# EAGLE library part ADS131* (library _hhn_AMC1100_ISO7240_ADS130)
ADS131 8-Channel, Integrated Analog Front-End for Metering Applications Package: PQFP-64 (0.5mm pitch) 10x10mm (TI-postfix "PAG") ADS130_ : (Generic) ADS130E08: 8 Channels, Accuracy Class 1.0, 8 ksps ADS131_ : (Generic) ADS131E04: 4 Channels, Accuracy Class 0.1, 64 ksps ADS131E06: 6 Channels, Accuracy Class 0.1, 64 ksps ADS131E08: 8 Channels, Accuracy Class 0.1, 64 ksps Author: Dipl.-Ing. FH Rainer Bayer Hochschule Heilbronn: http://www.hochschule-heilbronn.de/rainer.bayer <http://www.hs-heilbronn.de/rainer.bayer> – rainer.bayer@hs-heilbronn.de Ingenieurbüro ing-rb: http://www.ing-rb.de/ – eagle@ing-rb.de Dozent dozent-rb: http://www.dozent-rb.de/ – eagle@dozent-rb.de
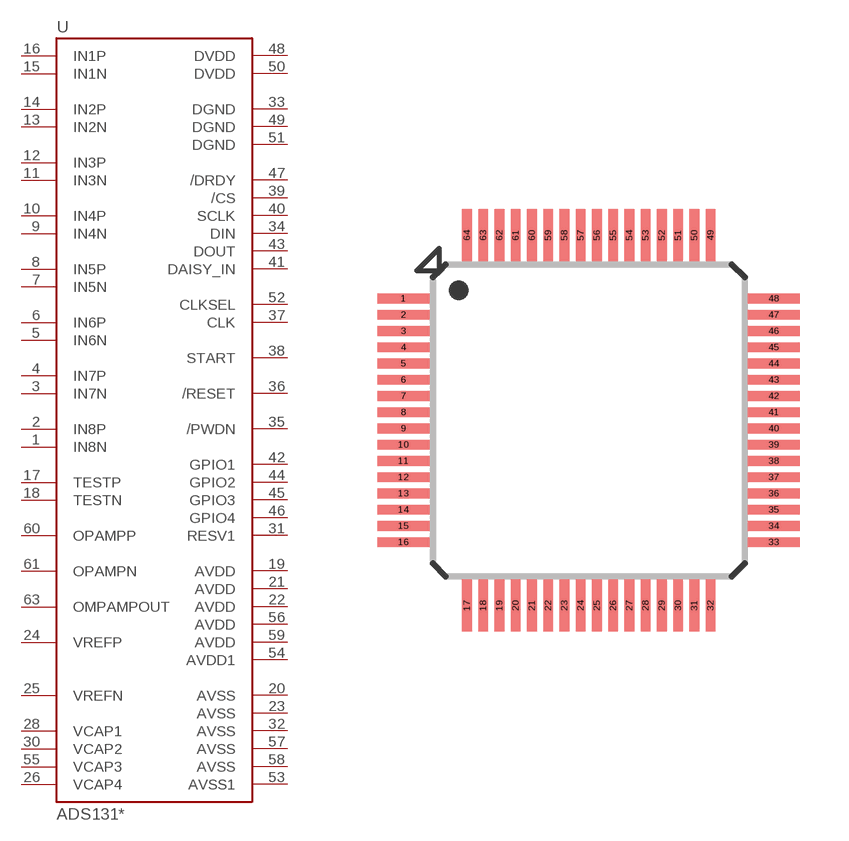
[diagram p6: symbol with the pads of TQFP64-10X10; footprint TQFP64-10X10]

Designator prefix U

## ADS131E04PAG, ADS131E06PAG, ADS131E08PAG, ADS131_PAG  [TQFP64-10X10]
1  IN8N  pas
2  IN8P  pas
3  IN7N  pas
4  IN7P  pas
5  IN6N  pas
6  IN6P  pas
7  IN5N  pas
8  IN5P  pas
9  IN4N  pas
10  IN4P  pas
11  IN3N  pas
12  IN3P  pas
13  IN2N  pas
14  IN2P  pas
15  IN1N  pas
16  IN1P  pas
17  TESTP  out
18  TESTN  out
19  AVDD  pwr
20  AVSS  pwr
21  AVDD  pwr
22  AVDD  pwr
23  AVSS  pwr
24  VREFP  pwr
25  VREFN  pwr
26  VCAP4  pas
28  VCAP1  pas
30  VCAP2  pas
31  RESV1  in
32  AVSS  pwr
33  DGND  pwr
34  DIN  in
35  /PWDN  in
36  /RESET  in
37  CLK
38  START  in
39  /CS  in
40  SCLK  in
41  DAISY_IN  in
42  GPIO1
43  DOUT  hiz
44  GPIO2
45  GPIO3
46  GPIO4
47  /DRDY  out
48  DVDD  pwr
49  DGND  pwr
50  DVDD  pwr
51  DGND  pwr
52  CLKSEL  in
53  AVSS1  pwr
54  AVDD1  pwr
55  VCAP3  pas
56  AVDD  pwr
57  AVSS  pwr
58  AVSS  pwr
59  AVDD  pwr
60  OPAMPP  pas
61  OPAMPN  pas
63  OMPAMPOUT  pas

## Footprint TQFP64-10X10 (pad centres in mm)
PQFP-64: Plastic Quad Flatpack, Metric (0.5mm), 10x10mm acc. to TI-specs/-recommendations; TI postfix PAG (S-PQFP-64)
smd 1.6 x 0.3: 1 -5.7,3.75; 2 -5.7,3.25; 3 -5.7,2.75; 4 -5.7,2.25; 5 -5.7,1.75; 6 -5.7,1.25; 7 -5.7,0.75; 8 -5.7,0.25; 9 -5.7,-0.25; 10 -5.7,-0.75; 11 -5.7,-1.25; 12 -5.7,-1.75; 13 -5.7,-2.25; 14 -5.7,-2.75; 15 -5.7,-3.25; 16 -5.7,-3.75; 33 5.7,-3.75; 34 5.7,-3.25; 35 5.7,-2.75; 36 5.7,-2.25; 37 5.7,-1.75; 38 5.7,-1.25; 39 5.7,-0.75; 40 5.7,-0.25; 41 5.7,0.25; 42 5.7,0.75; 43 5.7,1.25; 44 5.7,1.75; 45 5.7,2.25; 46 5.7,2.75; 47 5.7,3.25; 48 5.7,3.75
smd 0.3 x 1.6: 17 -3.75,-5.7; 18 -3.25,-5.7; 19 -2.75,-5.7; 20 -2.25,-5.7; 21 -1.75,-5.7; 22 -1.25,-5.7; 23 -0.75,-5.7; 24 -0.25,-5.7; 25 0.25,-5.7; 26 0.75,-5.7; 27 1.25,-5.7; 28 1.75,-5.7; 29 2.25,-5.7; 30 2.75,-5.7; 31 3.25,-5.7; 32 3.75,-5.7; 49 3.75,5.7; 50 3.25,5.7; 51 2.75,5.7; 52 2.25,5.7; 53 1.75,5.7; 54 1.25,5.7; 55 0.75,5.7; 56 0.25,5.7; 57 -0.25,5.7; 58 -0.75,5.7; 59 -1.25,5.7; 60 -1.75,5.7; 61 -2.25,5.7; 62 -2.75,5.7; 63 -3.25,5.7; 64 -3.75,5.7